# Altium footprint library D2PAK-5.PcbLib: 1 footprints
Each footprint in its own frame and in the unit in brackets; x right, y up, seen from the top. Pads: shape width x height; smd on the part's side, far side on the other; paste and mask are expansions set on the pad; w line width, h text height; cw(c..) or ccw(c..) is an arc to the next point about the centre after c.
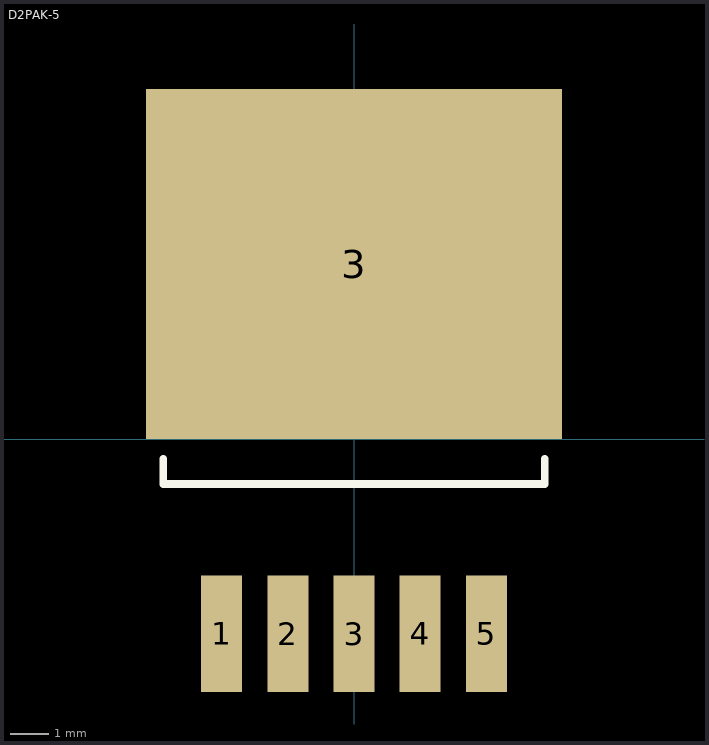
[diagram p0: the footprint, top view; thin cyan lines are the x and y axes]

## D2PAK-5 [mm] "D2PAK-5 (TO-263-5)"
pads (6):
  rect 1.05x3 smd: 1(-3.4,-5) 2(-1.7,-5) 3(0,-5) 4(1.7,-5) 5(3.4,-5)
  rect 10.7x9 smd: 3(0,4.5)
Top Overlay:
  lines w0.2: -4.9,-0.5 -4.9,-1.15 4.9,-1.15 4.9,-0.5
3D body "TO263-5-1.stp": height 4.22, standoff 0, extent -4.911,-5.861 4.911,8.741